# Altium footprint library HyTechDevices.PCBLIB: 298 footprints (part 8 of 19)
Each footprint in its own frame and in the unit in brackets; x right, y up, seen from the top. Pads: shape width x height; smd on the part's side, far side on the other; paste and mask are expansions set on the pad; w line width, h text height; cw(c..) or ccw(c..) is an arc to the next point about the centre after c.
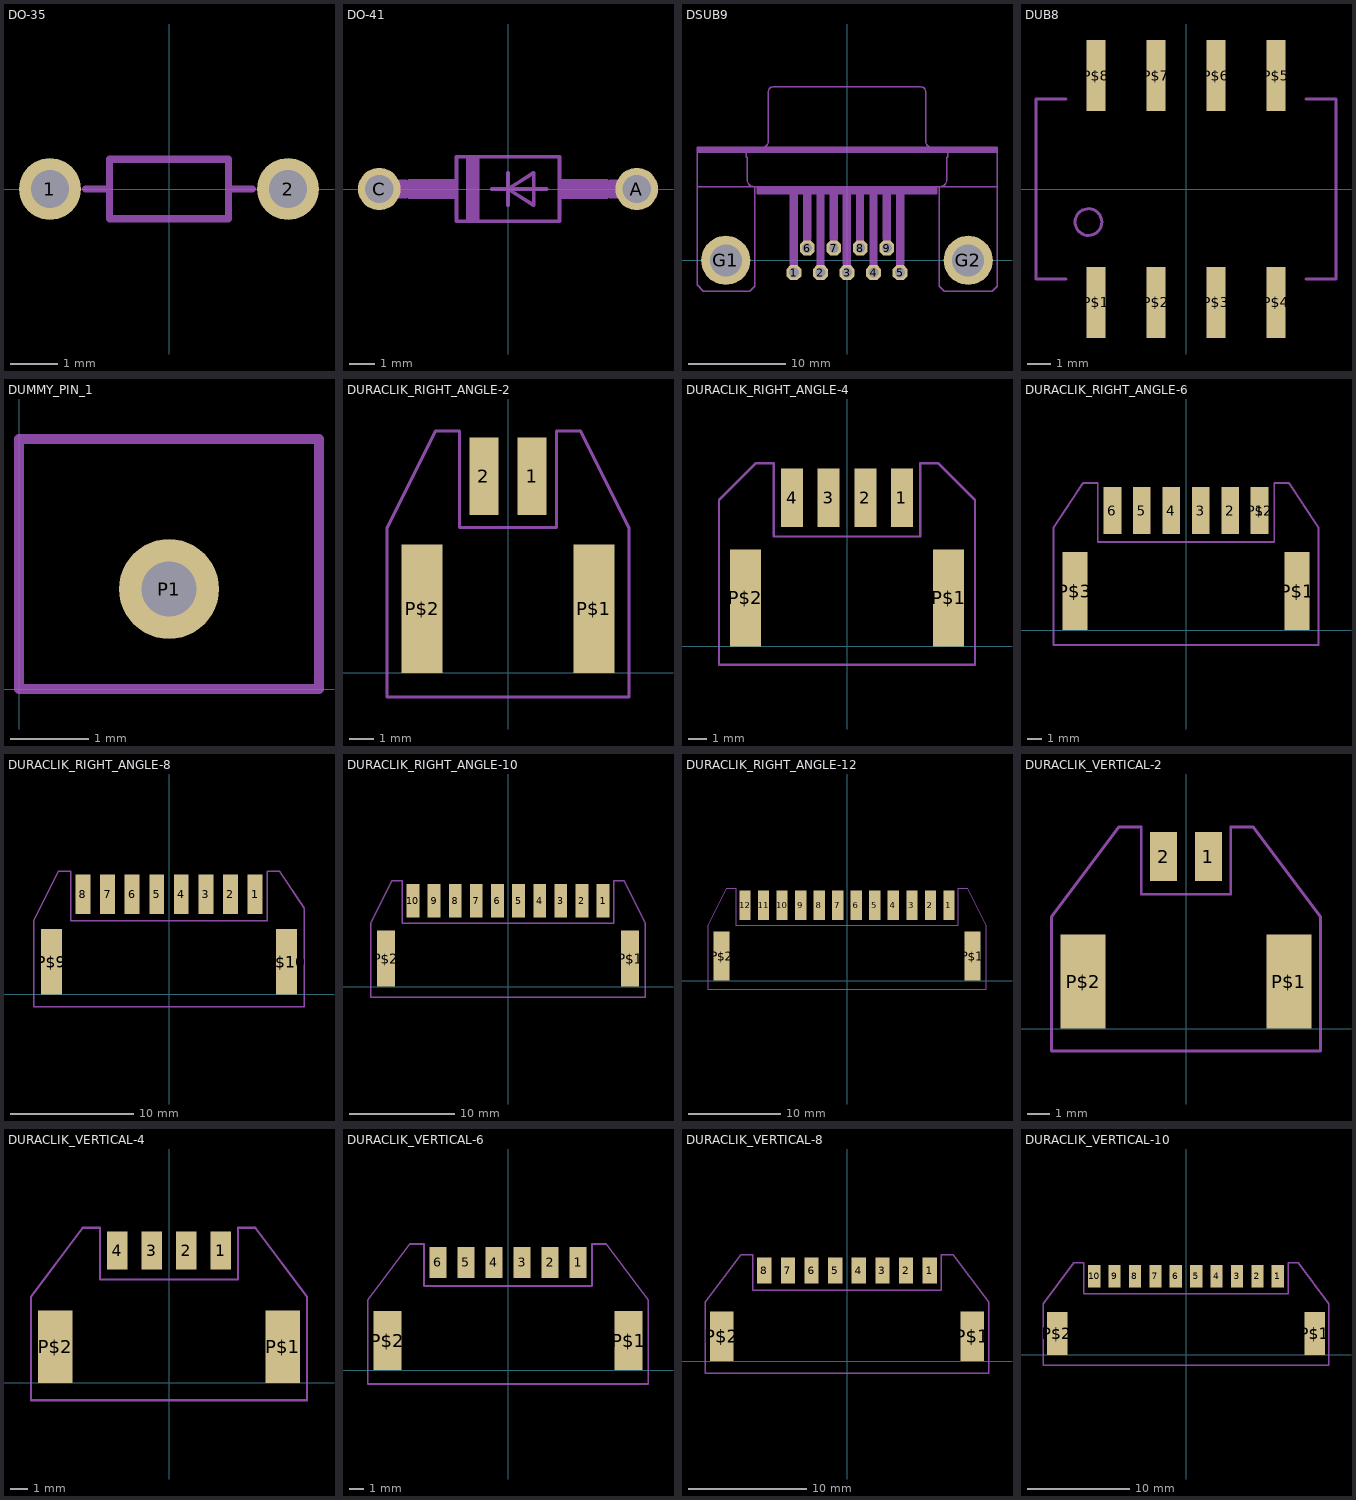
[diagram p7: the footprints below, top view; thin cyan lines are the x and y axes]

## DO-35 [mil]
pads (2):
  round 52 hole 32: 1(-100,0) 2(100,0)
Mechanical 7:
  lines w6: -70,0 -50,0 ; 70,0 50,0 ; -50,0 -50,25 50,25 50,0 ; -50,0 -50,-25 50,-25 50,0

## DO-41 [mil]
pads (2):
  round 66 hole 44: A(200,0) C(-200,0)
Mechanical 3:
  lines w30: -200,0 -160,0 ; 160,0 200,0
Mechanical 7:
  region: -65,-50 -65,50 -45,50 -45,-50
  region: 80,-15 80,15 155,15 155,-15
  region: -155,-15 -155,15 -80,15 -80,-15
  lines w6: -25,0 0,0 ; 0,-25 0,0 ; 0,25 0,0 ; 60,0 0,0 ; 0,0 40,-25 40,25 0,0 ; -80,-50 80,-50 80,50 -80,50 -80,-50

## DSUB9 [mil]
pads (11):
  oct 60x60 / inner round 55.43 / far side oct 60x60 hole 40: 1(-216,-50) 2(-108,-50) 3(0,-50) 4(108,-50) 5(216,-50) 6(-162,50) 7(-54,50) 8(54,50) 9(162,50)
  round 200 hole 130: G1(-493,0) G2(493,0)
Mechanical 7:
  circle w6: c-493,0 r65
  circle w6: c493,0 r65
  text "1" at -300,-75 h77.5
  text "5" at 275,-75 h77.5
  text "9" at 275,25 h77.5
  text "6" at -300,25 h77.5
Mechanical 20:
  region: -365,270 -365,300 365,300 365,270
  region: -610,440 -610,460 610,460 610,440
  region: -232,-15 -232,270 -200,270 -200,-15
  region: -178,85 -178,270 -146,270 -146,85
  region: -124,-15 -124,270 -92,270 -92,-15
  region: -70,85 -70,270 -38,270 -38,85
  region: -17,-15 -17,270 15,270 15,-15
  region: 37,85 37,270 69,270 69,85
  region: 92,-15 92,270 124,270 124,-15
  region: 146,85 146,270 178,270 178,85
  region: 200,-15 200,270 232,270 232,-15
  lines w6: -380,300 cw(c-380,325) -405,325 -405,420 -410,420 -410,440 ; -345,460 ccw(c-345,485) -320,485 -320,685 cw(c-300,685) -300,705 -290,705 290,705 300,705 cw(c300,685) 320,685 320,485 ccw(c345,485) 345,460 ; 380,300 ccw(c380,325) 405,325 405,420 410,420 410,440 ; -610,300 -410,300 -375,300 ; -610,300 -610,420 -610,440 ; -610,300 -610,295 -610,-100 -585,-125 -395,-125 -375,-105 -375,300 ; -610,440 -610,460 -305,460 305,460 610,460 610,440 ; -610,440 -510,440 -410,440 ; -410,440 410,440 ; -375,300 -365,300 ; -365,300 -365,270 365,270 365,300 ; -365,300 365,300 ; 365,300 375,300 ; 375,300 410,300 610,300 ; 375,300 375,-105 395,-125 590,-125 610,-105 610,295 610,300 ; 410,440 510,440 610,440 ; 610,300 610,420 610,440
  lines w32: -216,-45 -216,-5 ; -162,55 -162,95 ; -108,-45 -108,-5 ; -54,55 -54,95 ; 0,-45 0,-5 ; 53,55 53,95 ; 108,-45 108,-5 ; 162,55 162,95 ; 216,-45 216,-5
  text "2,54" at 590,100 h77.5
  text "F09" at -300,335 h77.5

## DUB8 [mil]
pads (8):
  rect 31.5x118.11 smd: P$1(-150,-188.98) P$2(-50,-188.98) P$3(50,-188.98) P$4(150,-188.98) P$5(150,188.98) P$6(50,188.98) P$7(-50,188.98) P$8(-150,188.98)
Mechanical 7:
  circle w5: c-162.6,-55.12 r22.27
  lines w5: -200,-150 -250,-150 -250,150 -200,150 ; 200,-150 250,-150 250,150 200,150

## DUMMY_PIN_1 [mil]
pads (1):
  round 50 hole 27.56: P1(75,50)
Mechanical 3:
  lines w5: 0,0 0,125 150,125 150,0 0,0
Mechanical 7:
  text "DUMMY 1" at 25,100 h24.8

## DURACLIK_RIGHT_ANGLE-2 [mm]
pads (4):
  rect 1.2x3.2 smd: 1(1,8.13) 2(-1,8.13)
  rect 1.7x5.3 smd: P$1(3.55,2.65) P$2(-3.55,2.65)
Mechanical 7:
  lines w0.127: -5,-1 5,-1 5,6 3,10 2,10 2,6 -2,6 -2,10 -3,10 -5,6 -5,-1

## DURACLIK_RIGHT_ANGLE-4 [mm]
pads (6):
  rect 1.2x3.2 smd: 1(3,8.13) 2(1,8.13) 3(-1,8.13) 4(-3,8.13)
  rect 1.7x5.3 smd: P$1(5.55,2.65) P$2(-5.55,2.65)
Mechanical 7:
  lines w0.127: -7,-1 7,-1 7,8 5,10 4,10 4,6 -4,6 -4,10 -5,10 -7,8 -7,-1

## DURACLIK_RIGHT_ANGLE-6 [mm]
pads (9):
  rect 1.2x3.2 smd: 1(5,8.13) 2(3,8.13) 3(1,8.13) 4(-1,8.13) 5(-3,8.13) 6(-5,8.13) P$2(5,8.13)
  rect 1.7x5.3 smd: P$1(7.55,2.65) P$3(-7.55,2.65)
Mechanical 7:
  lines w0.127: -9,-1 -9,7 -7,10 -6,10 -6,6 6,6 6,10 7,10 9,7 9,-1 -9,-1

## DURACLIK_RIGHT_ANGLE-8 [mm]
pads (10):
  rect 1.2x3.2 smd: 1(7,8.13) 2(5,8.13) 3(3,8.13) 4(1,8.13) 5(-1,8.13) 6(-3,8.13) 7(-5,8.13) 8(-7,8.13)
  rect 1.7x5.3 smd: P$9(-9.55,2.65) P$10(9.55,2.65)
Mechanical 7:
  lines w0.127: -11,-1 -11,6 -9,10 -8,10 -8,6 8,6 8,10 9,10 11,7 11,-1 -11,-1

## DURACLIK_RIGHT_ANGLE-10 [mm]
pads (12):
  rect 1.2x3.2 smd: 1(9,8.13) 2(7,8.13) 3(5,8.13) 4(3,8.13) 5(1,8.13) 6(-1,8.13) 7(-3,8.13) 8(-5,8.13) 9(-7,8.13) 10(-9,8.13)
  rect 1.7x5.3 smd: P$1(11.55,2.65) P$2(-11.55,2.65)
Mechanical 7:
  lines w0.127: -13,-1 13,-1 13,6 11,10 10,10 10,6 -10,6 -10,10 -11,10 -13,6 -13,-1

## DURACLIK_RIGHT_ANGLE-12 [mm]
pads (14):
  rect 1.2x3.2 smd: 1(11,8.13) 2(9,8.13) 3(7,8.13) 4(5,8.13) 5(3,8.13) 6(1,8.13) 7(-1,8.13) 8(-3,8.13) 9(-5,8.13) 10(-7,8.13) 11(-9,8.13) 12(-11,8.13)
  rect 1.7x5.3 smd: P$1(13.55,2.65) P$2(-13.55,2.65)
Mechanical 7:
  lines w0.127: -15,-1 15,-1 15,6 13,10 12,10 12,6 -12,6 -12,10 -13,10 -15,6 -15,-1

## DURACLIK_VERTICAL-2 [mm]
pads (4):
  rect 1.2x2.2 smd: 1(1,7.68) 2(-1,7.68)
  rect 2x4.2 smd: P$1(4.6,2.1) P$2(-4.6,2.1)
Mechanical 7:
  lines w0.127: -6,-1 6,-1 6,5 3,9 2,9 2,6 -2,6 -2,9 -3,9 -6,5 -6,-1

## DURACLIK_VERTICAL-4 [mm]
pads (6):
  rect 1.2x2.2 smd: 1(3,7.68) 2(1,7.68) 3(-1,7.68) 4(-3,7.68)
  rect 2x4.2 smd: P$1(6.6,2.1) P$2(-6.6,2.1)
Mechanical 7:
  lines w0.127: -8,-1 8,-1 8,5 5,9 4,9 4,6 -4,6 -4,9 -5,9 -8,5 -8,-1

## DURACLIK_VERTICAL-6 [mm]
pads (8):
  rect 1.2x2.2 smd: 1(5,7.68) 2(3,7.68) 3(1,7.68) 4(-1,7.68) 5(-3,7.68) 6(-5,7.68)
  rect 2x4.2 smd: P$1(8.6,2.1) P$2(-8.6,2.1)
Mechanical 7:
  lines w0.127: -10,-1 10,-1 10,5 7,9 6,9 6,6 -6,6 -6,9 -7,9 -10,5 -10,-1

## DURACLIK_VERTICAL-8 [mm]
pads (10):
  rect 1.2x2.2 smd: 1(7,7.68) 2(5,7.68) 3(3,7.68) 4(1,7.68) 5(-1,7.68) 6(-3,7.68) 7(-5,7.68) 8(-7,7.68)
  rect 2x4.2 smd: P$1(10.6,2.1) P$2(-10.6,2.1)
Mechanical 7:
  lines w0.127: -12,-1 12,-1 12,5 9,9 8,9 8,6 -8,6 -8,9 -9,9 -12,5 -12,-1

## DURACLIK_VERTICAL-10 [mm]
pads (12):
  rect 1.2x2.2 smd: 1(9,7.68) 2(7,7.68) 3(5,7.68) 4(3,7.68) 5(1,7.68) 6(-1,7.68) 7(-3,7.68) 8(-5,7.68) 9(-7,7.68) 10(-9,7.68)
  rect 2x4.2 smd: P$1(12.6,2.1) P$2(-12.6,2.1)
Mechanical 7:
  lines w0.127: -14,-1 14,-1 14,5 11,9 10,9 10,6 -10,6 -10,9 -11,9 -14,5 -14,-1